# Altium footprint library Pixy2PCBLib.PcbLib: 17 footprints (part 2 of 2)
Each footprint in its own frame and in the unit in brackets; x right, y up, seen from the top. Pads: shape width x height; smd on the part's side, far side on the other; paste and mask are expansions set on the pad; w line width, h text height; cw(c..) or ccw(c..) is an arc to the next point about the centre after c.
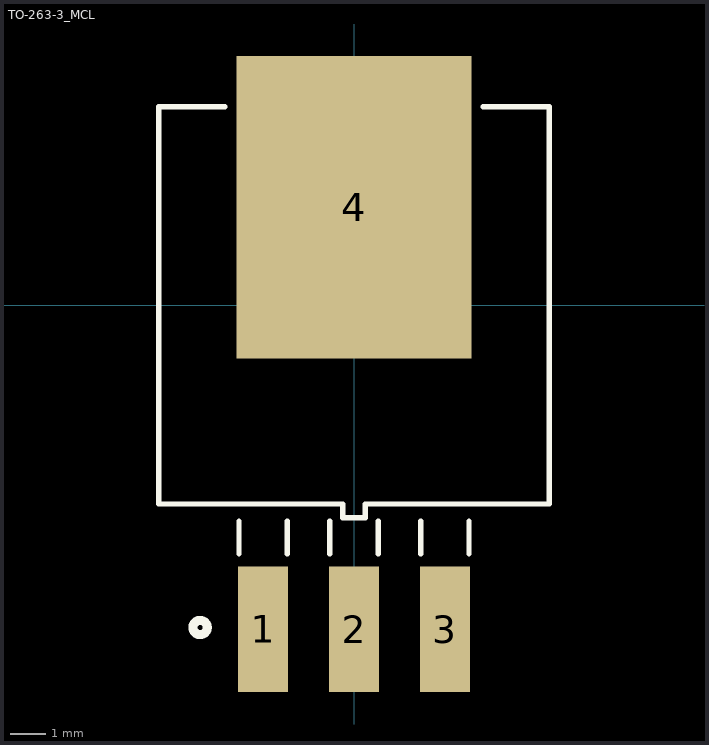
[diagram p1: the footprint, top view; thin cyan lines are the x and y axes]

## TO-263-3_MCL [mil]
pads (4):
  rect 55x138 smd paste+0 mask+0: 1(-100,-356.5) 2(0,-356.5) 3(100,-356.5)
  rect 258x333 smd paste+0 mask+0: 4(0,108)
Top Overlay:
  circle w10: c-169.29,-354.33 r7.87
  lines w6: -142.1,218.5 -215,218.5 -215,-218.5 -12.5,-218.5 -12.5,-233.5 12.5,-233.5 12.5,-218.5 215,-218.5 215,218.5 142.1,218.5 ; -126.5,-273.5 -126.5,-237.5 ; -73.5,-273.5 -73.5,-237.5 ; -26.5,-273.5 -26.5,-237.5 ; 26.5,-273.5 26.5,-237.5 ; 73.5,-273.5 73.5,-237.5 ; 126.5,-273.5 126.5,-237.5
3D body "TO-263-3_MCL.step": height 181.1, standoff -2.01, extent -210,-411.5 210,253.5